# Altium footprint library MPU6050.PcbLib: 1 footprints
Each footprint in its own frame and in the unit in brackets; x right, y up, seen from the top. Pads: shape width x height; smd on the part's side, far side on the other; paste and mask are expansions set on the pad; w line width, h text height; cw(c..) or ccw(c..) is an arc to the next point about the centre after c.
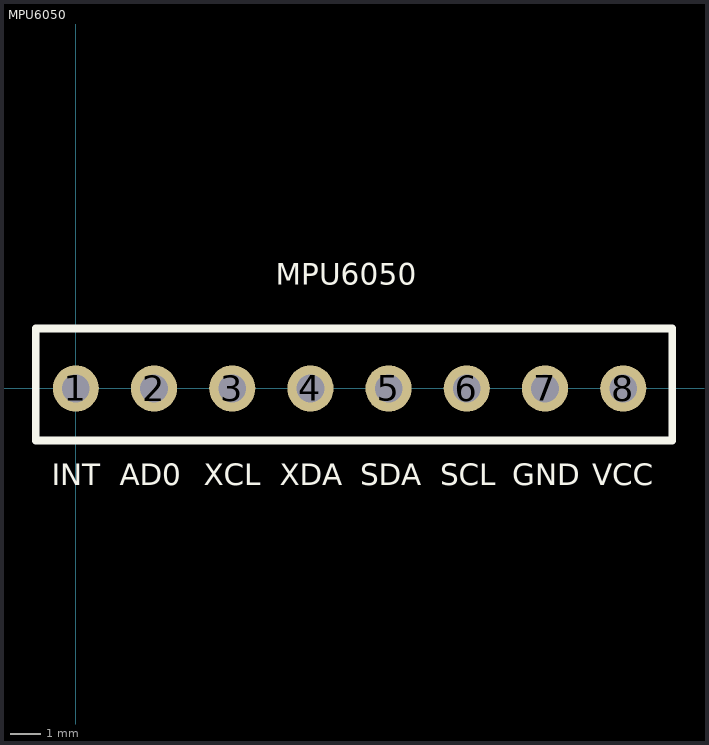
[diagram p0: the footprint, top view; thin cyan lines are the x and y axes]

## MPU6050 [mm]
pads (8):
  round 1.5 hole 0.9: 1(0,0) 2(2.54,0) 3(5.08,0) 4(7.62,0) 5(10.16,0) 6(12.7,0) 7(15.24,0) 8(17.78,0)
Top Overlay:
  lines w0.254: -1.3,-1.69 -1.3,1.95 19.37,1.95 19.37,-1.43 19.37,-1.69 -1.3,-1.69
  text "MPU6050" at 6.5,3.12 h1.2
  text "VCC" at 16.77,-3.38 h1.2
  text "GND" at 14.17,-3.38 h1.2
  text "SCL" at 11.83,-3.38 h1.2
  text "SDA" at 9.23,-3.38 h1.2
  text "XDA" at 6.63,-3.38 h1.2
  text "XCL" at 4.16,-3.38 h1.2
  text "AD0" at 1.43,-3.38 h1.2
  text "INT" at -0.78,-3.38 h1.2
3D body "Pin_female_8.SLDPRT": height 8.51, standoff -1.55, extent -1.26,-1.205 19.06,1.205